# Altium footprint library BOURNS_1140-331K-RC.PcbLib: 1 footprints
Each footprint in its own frame and in the unit in brackets; x right, y up, seen from the top. Pads: shape width x height; smd on the part's side, far side on the other; paste and mask are expansions set on the pad; w line width, h text height; cw(c..) or ccw(c..) is an arc to the next point about the centre after c.
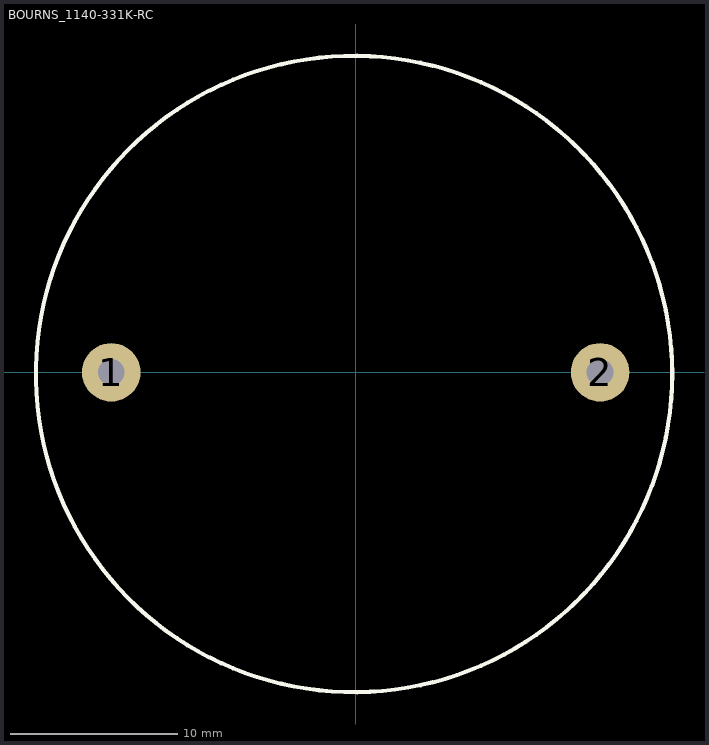
[diagram p0: the footprint, top view; thin cyan lines are the x and y axes]

## BOURNS_1140-331K-RC [mm]
pads (2):
  round 3.5 hole 1.6 mask+0.05: 1(-14.6,0) 2(14.6,0)
Top Overlay:
  circle w0.25: c-0.1,-0.1 r19.007
3D body "1140-331k-rc.stp": height 26.28, standoff -12.58, extent -19.05,-19.05 19.05,19.05